# EAGLE library part FE06-1 (library ATMEL)
FEMALE HEADER
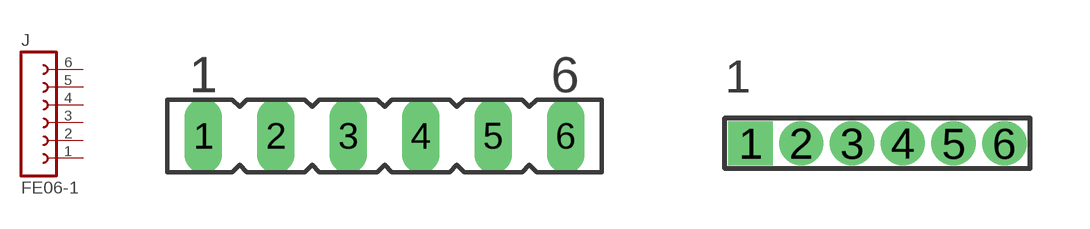
[diagram p5: symbol with the pads of FE06; footprints FE06, FEMALEHEADER_6_50]

Designator prefix J

## FE06-1100_MIL  [FE06]
1  1  pas
2  2  pas
3  3  pas
4  4  pas
5  5  pas
6  6  pas

## FE06-150_MIL  [FEMALEHEADER_6_50]
Pads as for FE06

## Footprint FE06 (pad centres in mm)
FEMALE HEADER
drill 0.813 long: 1 -6.35,0; 2 -3.81,0; 3 -1.27,0; 4 1.27,0; 5 3.81,0; 6 6.35,0

## Footprint FEMALEHEADER_6_50 (pad centres in mm)
drill 0.6 pad 1.016 square: 1 0,0
drill 0.6 pad 1.016 round: 2 1.27,0; 3 2.54,0; 4 3.81,0; 5 5.08,0; 6 6.35,0